# Altium schematic symbol library SJV-1216A.Schlib: 1 symbol
Pins are listed as number, name and electrical type; pins without a type are passive.

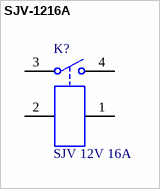
[diagram p0: symbol SJV-1216A]

## SJV-1216A
designator K?, comment SJV 12V 16A
COMPACT FLAT   POWER RELAY FOR   HEATER LOADS
pins: 1, 2, 3, 4